# EAGLE library part IRF8910PBF (library BeaverBoard)
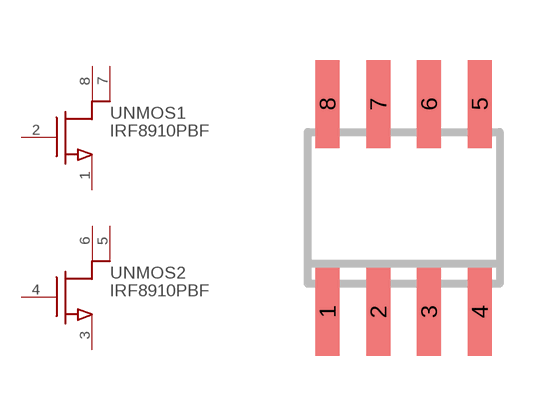
[diagram p6: symbol with the pads of SOIC8; footprint SOIC8]

Designator prefix -; gates NMOS1=NMOS NMOS2=NMOS

## IRF8910PBF  [SOIC8]
1  NMOS1:S
2  NMOS1:G
3  NMOS2:S
4  NMOS2:G
5  NMOS2:D2
6  NMOS2:D1
7  NMOS1:D2
8  NMOS1:D1

## Footprint SOIC8 (pad centres in mm)
smd 0.6 x 2.2: 1 -1.905,-2.6; 2 -0.635,-2.6; 3 0.635,-2.6; 4 1.905,-2.6; 5 1.905,2.6; 6 0.635,2.6; 7 -0.635,2.6; 8 -1.905,2.6